# Altium footprint library BULETM-SMD_PB-03F.PcbLib: 1 footprints
Each footprint in its own frame and in the unit in brackets; x right, y up, seen from the top. Pads: shape width x height; smd on the part's side, far side on the other; paste and mask are expansions set on the pad; w line width, h text height; cw(c..) or ccw(c..) is an arc to the next point about the centre after c.
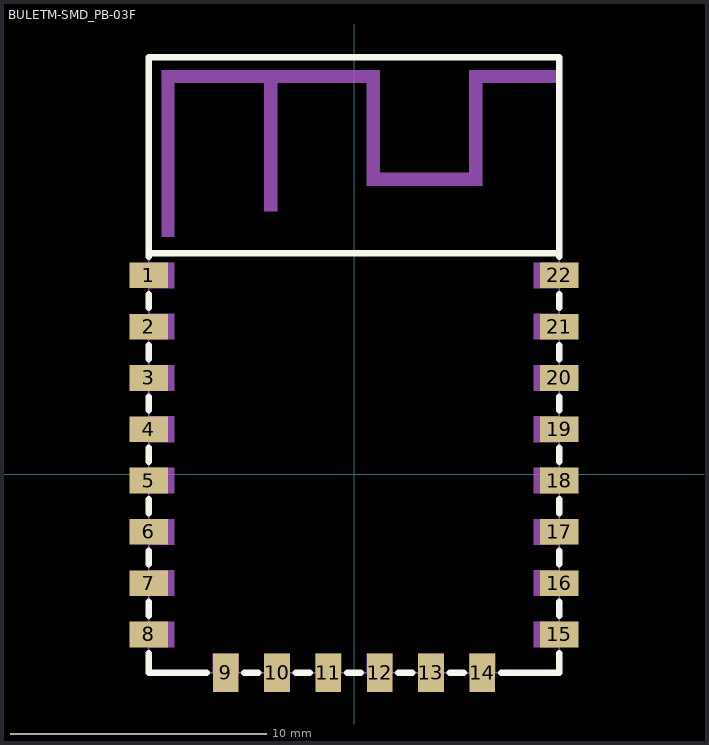
[diagram p0: the footprint, top view; thin cyan lines are the x and y axes]

## BULETM-SMD_PB-03F [mm]
pads (22):
  rect 1.5x1 smd paste+0 mask+0.05: 1(-8,7.75) 2(-8,5.75) 3(-8,3.75) 4(-8,1.75) 5(-8,-0.25) 6(-8,-2.25) 7(-8,-4.25) 8(-8,-6.25) 15(8,-6.25) 16(8,-4.25) 17(8,-2.25) 18(8,-0.25) 19(8,1.75) 20(8,3.75) 21(8,5.75) 22(8,7.75)
  rect 1x1.5 smd paste+0 mask+0.05: 9(-5,-7.75) 10(-3,-7.75) 11(-1,-7.75) 12(1,-7.75) 13(3,-7.75) 14(5,-7.75)
Top Overlay:
  lines w0.254: -8,-6.981 -8,-7.75 -5.731,-7.75 ; -8,-5.519 -8,-4.981 ; -8,-3.519 -8,-2.981 ; -8,-1.519 -8,-0.981 ; -8,0.481 -8,1.019 ; -8,2.481 -8,3.019 ; -8,4.481 -8,5.019 ; -8,6.481 -8,7.019 ; -8,8.481 -8,16.25 8,16.25 8,8.481 ; -8,8.613 8,8.613 ; -4.269,-7.75 -3.731,-7.75 ; -2.269,-7.75 -1.731,-7.75 ; -0.269,-7.75 0.269,-7.75 ; 1.731,-7.75 2.269,-7.75 ; 3.731,-7.75 4.269,-7.75 ; 5.731,-7.75 8,-7.75 8,-6.981 ; 8,-5.519 8,-4.981 ; 8,-3.519 8,-2.981 ; 8,-1.519 8,-0.981 ; 8,0.481 8,1.019 ; 8,2.481 8,3.019 ; 8,4.481 8,5.019 ; 8,6.481 8,7.019
Mechanical 6:
  region: 5,15.75 8,15.75 8,15.25 5,15.25
  region: 4.5,11.25 4.5,15.75 5,15.75 5,11.25
  region: 1,11.25 4.5,11.25 4.5,11.75 1,11.75
  region: 0.5,15.75 0.5,11.25 1,11.25 1,15.75
  region: -3,15.75 0.5,15.75 0.5,15.25 -3,15.25
  region: -3,15.25 -3,10.25 -3.5,10.25 -3.5,15.25
  region: -7,15.75 -3,15.75 -3,15.25 -7,15.25
  region: -7.5,9.25 -7.5,15.75 -7,15.75 -7,9.25
Mechanical 15:
  region: -5.5,-7.75 -5.5,-7 -4.5,-7 -4.5,-7.75
  region: -3.5,-7.75 -3.5,-7 -2.5,-7 -2.5,-7.75
  region: -1.5,-7.75 -1.5,-7 -0.5,-7 -0.5,-7.75
  region: 0.5,-7.75 0.5,-7 1.5,-7 1.5,-7.75
  region: 2.5,-7.75 2.5,-7 3.5,-7 3.5,-7.75
  region: 4.5,-7.75 4.5,-7 5.5,-7 5.5,-7.75
  region: -8,8.25 -7,8.25 -7,7.25 -8,7.25
  region: -8,6.25 -7,6.25 -7,5.25 -8,5.25
  region: -8,4.25 -7,4.25 -7,3.25 -8,3.25
  region: -8,2.25 -7,2.25 -7,1.25 -8,1.25
  region: -8,0.25 -7,0.25 -7,-0.75 -8,-0.75
  region: -8,-1.75 -7,-1.75 -7,-2.75 -8,-2.75
  region: -8,-3.75 -7,-3.75 -7,-4.75 -8,-4.75
  region: -8,-5.75 -7,-5.75 -7,-6.75 -8,-6.75
  region: 7,-5.75 8,-5.75 8,-6.75 7,-6.75
  region: 7,-3.75 8,-3.75 8,-4.75 7,-4.75
  region: 7,-1.75 8,-1.75 8,-2.75 7,-2.75
  region: 7,0.25 8,0.25 8,-0.75 7,-0.75
  region: 7,2.25 8,2.25 8,1.25 7,1.25
  region: 7,4.25 8,4.25 8,3.25 7,3.25
  region: 7,6.25 8,6.25 8,5.25 7,5.25
  region: 7,8.25 8,8.25 8,7.25 7,7.25
  region: -7.94,16.25 -7.941,16.274 -7.976,16.308 -8.024,16.308 -8.059,16.274 -8.06,16.25 -8.059,16.226 -8.024,16.192 -7.976,16.192 -7.941,16.226 -7.94,16.25
  lines w0.051: -8,-7.75 8,-7.75 8,16.25 -8,16.25 -8,-7.75